# Altium schematic symbol library SCH-BJT-ONSEMI NPN SOT-223.SchLib: 1 symbol
Pins are listed as number, name and electrical type; pins without a type are passive.

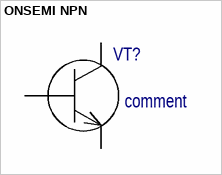
[diagram p0: symbol ONSEMI NPN]

## ONSEMI NPN
designator VT?, comment comment
pins: 1 B, 2 C, 3 E